# Altium schematic symbol library MySchlib.SchLib: 71 symbols
Pins are listed as number, name and electrical type; pins without a type are passive.

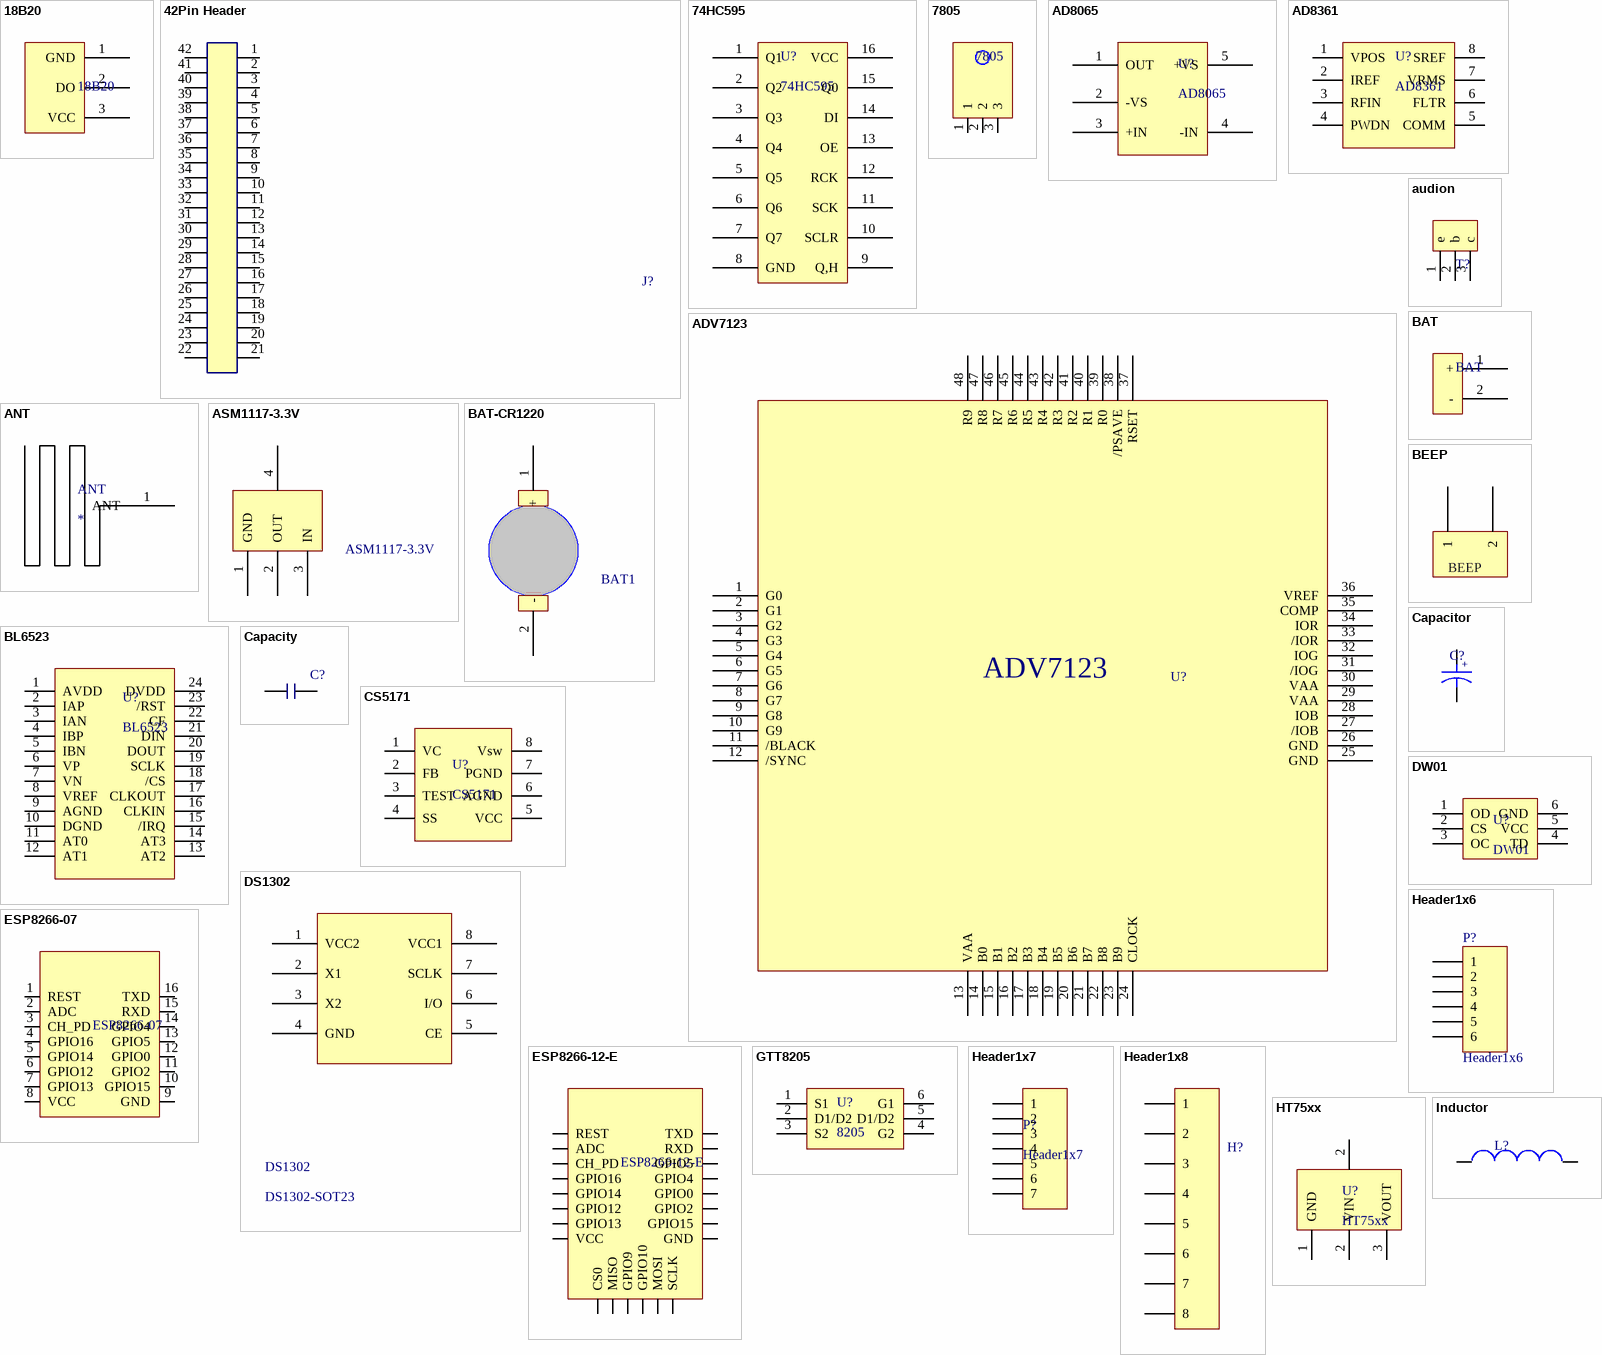
[diagram p0: symbols 18B20 to Inductor]

## 18B20
designator 18B20  (value not drawn)
footprint 18B20
pins: 1 GND, 2 DO, 3 VCC

## 42Pin Header
designator J?  (value not drawn)
footprint Test contact
pins: 1, 2, 3, 4, 5, 6, 7, 8, 9, 10, 11, 12, 13, 14, 15, 16, 17, 18, 19, 20, 21, 22, 23, 24, 25, 26, 27, 28, 29, 30, 31, 32, 33, 34, 35, 36, 37, 38, 39, 40, 41, 42

## 74HC595
designator U?
footprint SOP16
pins: 1 Q1, 2 Q2, 3 Q3, 4 Q4, 5 Q5, 6 Q6, 7 Q7, 8 GND, 9 Q,H, 10 SCLR, 11 SCK, 12 RCK, 13 OE, 14 DI, 15 Q0, 16 VCC

## 7805
designator 7805  (value not drawn)
footprint 7805
pins: 1, 2, 3

## AD8065
designator U?
footprint SOT25-5
pins: 1 OUT, 2 -VS, 3 +IN, 4 -IN, 5 +VS

## AD8361
designator U?
footprint TSOP65P490X110-8N (TSOP, 8-Leads, Body 3.0x3.0mm (max), Pitch 0.65mm, IPC Medium Density)
pins: 1 VPOS, 2 IREF, 3 RFIN, 4 PWDN, 5 COMM, 6 FLTR, 7 VRMS, 8 SREF

## ADV7123
designator U?  (value not drawn)
footprint LQFP48
pins: 1 G0, 2 G1, 3 G2, 4 G3, 5 G4, 6 G5, 7 G6, 8 G7, 9 G8, 10 G9, 11 /BLACK, 12 /SYNC, 13 VAA, 14 B0, 15 B1, 16 B2, 17 B3, 18 B4, 19 B5, 20 B6, 21 B7, 22 B8, 23 B9, 24 CLOCK, 25 GND, 26 GND, 27 /IOB, 28 IOB, 29 VAA, 30 VAA, 31 /IOG, 32 IOG, 33 /IOR, 34 IOR, 35 COMP, 36 VREF, 37 RSET, 38 /PSAVE, 39 R0, 40 R1, 41 R2, 42 R3, 43 R4, 44 R5, 45 R6, 46 R7, 47 R8, 48 R9

## ANT
designator ANT
footprint ANT
pins: 1 ANT

## ASM1117-3.3V
designator ASM1117-3.3V  (value not drawn)
footprint ASM1117
footprint SOT223
pins: 1 GND, 2 OUT, 3 IN, 4

## audion
designator T?, comment 8550  (value not drawn)
footprint Audion
pins: 1 e, 2 b, 3 c

## BAT
designator BAT  (value not drawn)
footprint BAT-IN
pins: 1 +, 2 -

## BAT-CR1220
designator BAT1  (value not drawn)
footprint BAT-CR1220
pins: 1 +, 2 -

## BEEP
designator BEEP  (value not drawn)
footprint BEEP
pins: 1, 2

## BL6523
designator U?
电量计量芯片
footprint SSOP-24_208mil
pins: 1 AVDD, 2 IAP, 3 IAN, 4 IBP, 5 IBN, 6 VP, 7 VN, 8 VREF, 9 AGND, 10 DGND, 11 AT0, 12 AT1, 13 AT2, 14 AT3, 15 /IRQ, 16 CLKIN, 17 CLKOUT, 18 /CS, 19 SCLK, 20 DOUT, 21 DIN, 22 CF, 23 /RST, 24 DVDD

## Capacitor
designator C?  (value not drawn)
footprint 100UF
pins: 1, 2
text: +

## Capacity
designator C?  (value not drawn)
footprint 0402
pins: 1, 2

## CS5171
designator U?
footprint SOIC-8
pins: 1 VC, 2 FB, 3 TEST, 4 SS, 5 VCC, 6 AGND, 7 PGND, 8 Vsw

## DS1302
designator DS1302, comment DS1302-SOT23
footprint SOIC-8M
pins: 1 VCC2, 2 X1, 3 X2, 4 GND, 5 CE, 6 I/O, 7 SCLK, 8 VCC1

## DW01
designator U?
锂电池保护芯片
footprint SOT23-5
pins: 1 OD, 2 CS, 3 OC, 4 TD, 5 VCC, 6 GND

## ESP8266-07
designator ESP8266-07  (value not drawn)
footprint ESP8266-07 (WiFi module)
pins: 1 REST, 2 ADC, 3 CH_PD, 4 GPIO16, 5 GPIO14, 6 GPIO12, 7 GPIO13, 8 VCC, 9 GND, 10 GPIO15, 11 GPIO2, 12 GPIO0, 13 GPIO5, 14 GPIO4, 15 RXD, 16 TXD

## ESP8266-12-E
designator ESP8266-12-E  (value not drawn)
footprint ESP8266-12-E (WiFi module)
pins: 1 REST, 2 ADC, 3 CH_PD, 4 GPIO16, 5 GPIO14, 6 GPIO12, 7 GPIO13, 8 VCC, 9 CS0, 10 MISO, 11 GPIO9, 12 GPIO10, 13 MOSI, 14 SCLK, 15 GND, 16 GPIO15, 17 GPIO2, 18 GPIO0, 19 GPIO4, 20 GPIO5, 21 RXD, 22 TXD

## GTT8205
designator U?, comment 8205
8205双N沟导MOS管,20V/6A
footprint SOT23-5
pins: 1 S1, 2 D1/D2, 3 S2, 4 G2, 5 D1/D2, 6 G1

## Header1x6
designator P?
Header, 6-Pin; LatestRevisionDate: 17-Jul-2002; LatestRevisionNote: Re-released for DXP Platform.; Publisher: Altium Limited
footprint HDR1X6 (Connector; Header; 6 Position)
signal-integrity model Connector
pins: 1, 2, 3, 4, 5, 6

## Header1x7
designator P?
footprint Header1x7
pins: 1, 2, 3, 4, 5, 6, 7

## Header1x8
designator H?  (value not drawn)
footprint Header1x8
pins: 1, 2, 3, 4, 5, 6, 7, 8

## HT75xx
designator U?
footprint SOT-89
pins: 1 GND, 2 VIN, 2 VIN, 3 VOUT

## Inductor
designator L?  (value not drawn)
pins: 1, 2

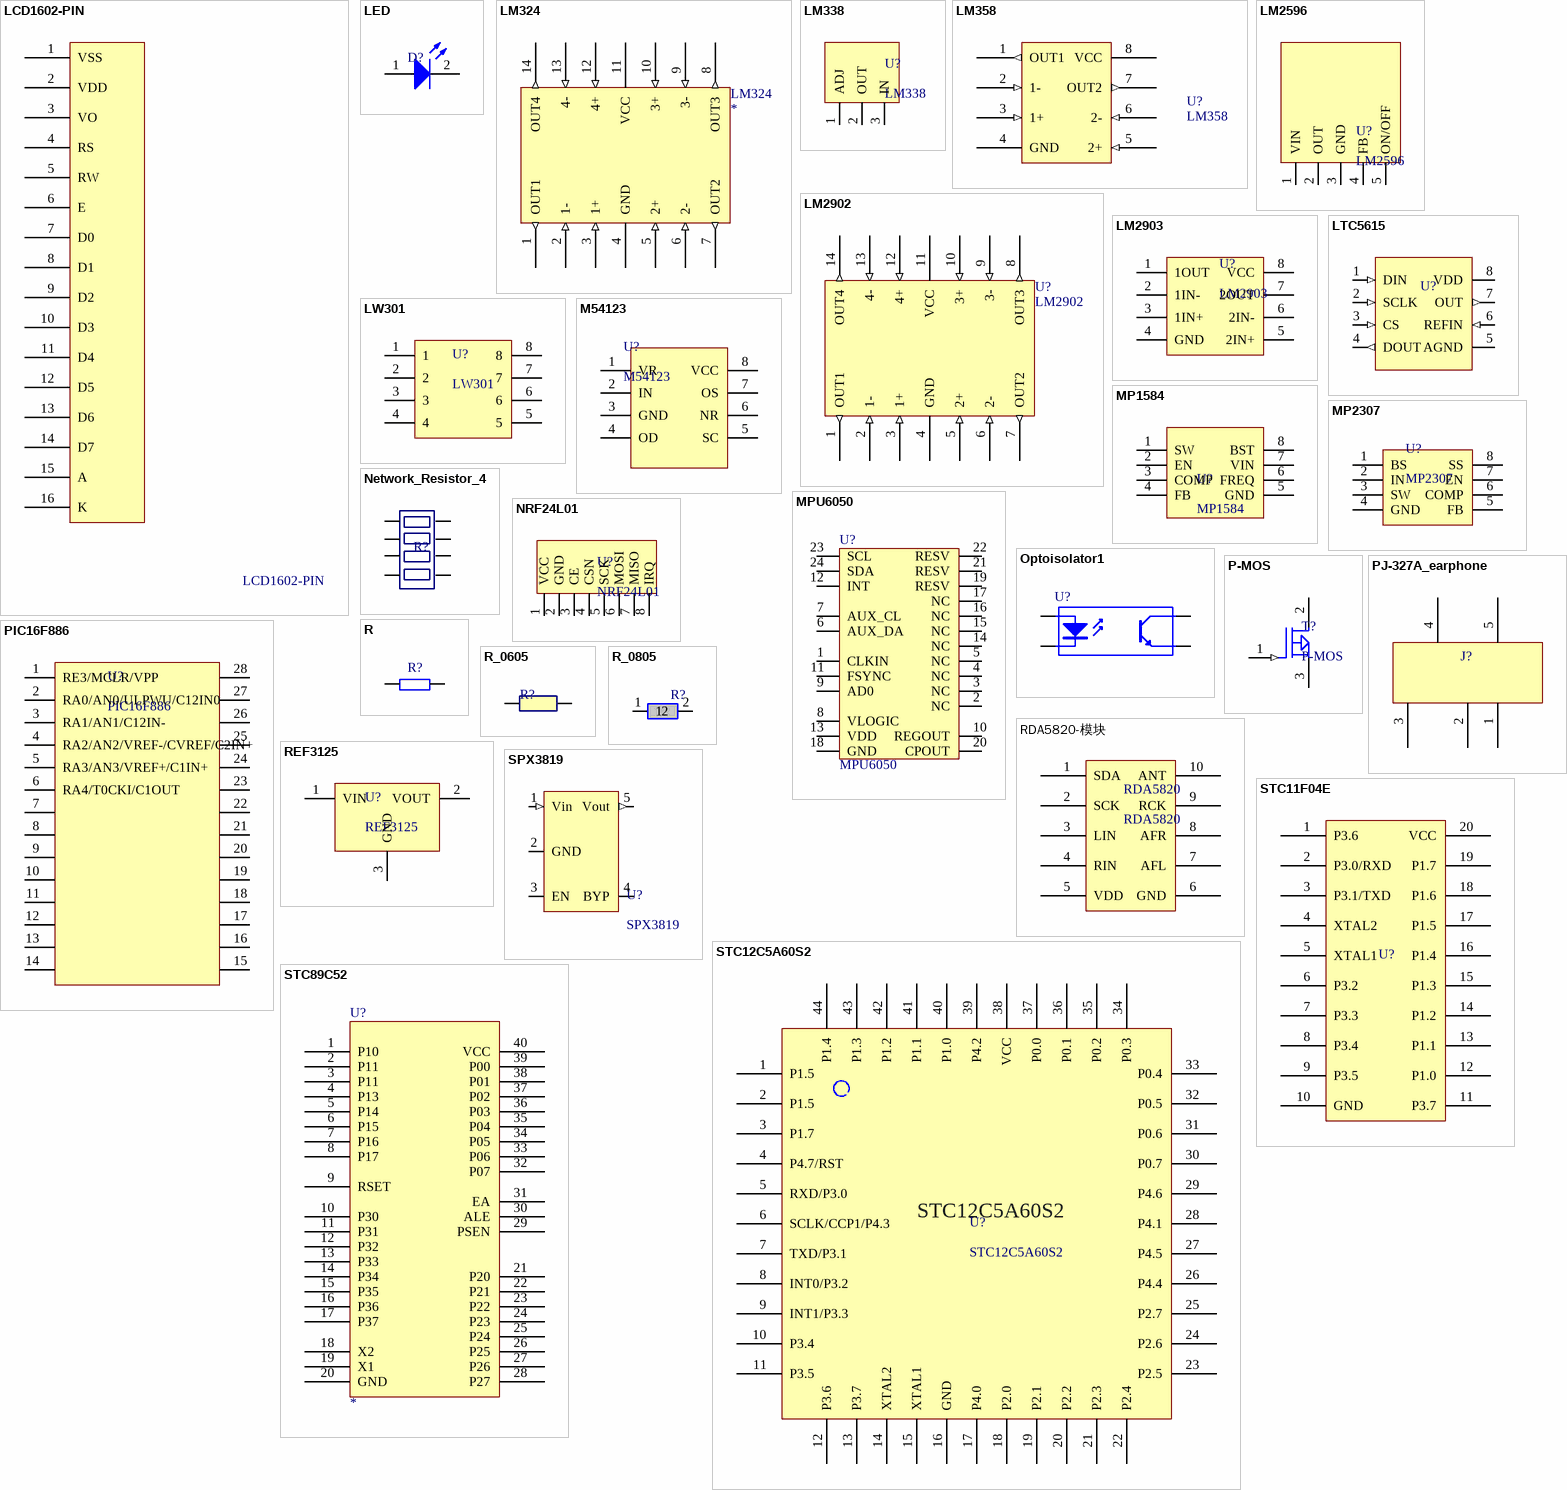
[diagram p1: symbols LCD1602-PIN to STC89C52]

## LCD1602-PIN
designator LCD1602-PIN  (value not drawn)
footprint LCD1602-PIN
pins: 1 VSS, 2 VDD, 3 VO, 4 RS, 5 RW, 6 E, 7 D0, 8 D1, 9 D2, 10 D3, 11 D4, 12 D5, 13 D6, 14 D7, 15 A, 16 K

## LED
designator D?  (value not drawn)
footprint 6-0805 (Chip Resistor; Body 2.0 x 1.3 mm (LxW typ))
pins: 1, 2

## LM324
designator LM324
pins: 1 OUT1 (out), 2 1- (in), 3 1+ (in), 4 GND (power), 5 2+ (in), 6 2- (in), 7 OUT2 (out), 8 OUT3 (out), 9 3- (in), 10 3+ (in), 11 VCC (power), 12 4+ (in), 13 4- (in), 14 OUT4 (out)

## LM338
designator U?
footprint TO-220 - duplicate1
pins: 1 ADJ, 2 OUT, 3 IN

## LM358
designator U?
footprint DIP08
pins: 1 OUT1 (out), 2 1- (in), 3 1+ (in), 4 GND (power), 5 2+ (in), 6 2- (in), 7 OUT2 (out), 8 VCC (power)

## LM2596
designator U?
footprint TO-263 - duplicate
pins: 1 VIN, 2 OUT, 3 GND, 4 FB, 5 ON/OFF

## LM2902
designator U?
运算放大器
pins: 1 OUT1 (out), 2 1- (in), 3 1+ (in), 4 GND (power), 5 2+ (in), 6 2- (in), 7 OUT2 (out), 8 OUT3 (out), 9 3- (in), 10 3+ (in), 11 VCC (power), 12 4+ (in), 13 4- (in), 14 OUT4 (out)

## LM2903
designator U?
电压比较器
footprint SOIC-8_150mil
pins: 1 1OUT, 2 1IN-, 3 1IN+, 4 GND, 5 2IN+, 6 2IN-, 7 2OUT, 8 VCC

## LTC5615
designator U?  (value not drawn)
footprint DIP08
pins: 1 DIN (in), 2 SCLK (in), 3 CS (in), 4 DOUT (out), 5 AGND, 6 REFIN (in), 7 OUT (out), 8 VDD (power)

## LW301
designator U?
footprint SOP-8
pins: 1, 2, 3, 4, 5, 6, 7, 8

## M54123
designator U?
footprint SOP-8
pins: 1 VR, 2 IN, 3 GND, 4 OD, 5 SC, 6 NR, 7 OS, 8 VCC

## MP1584
designator U?
DC-DC芯片
footprint SOP-8_EP_150mil
pins: 1 SW, 2 EN, 3 COMP, 4 FB, 5 GND, 6 FREQ, 7 VIN, 8 BST

## MP2307
designator U?
DC-DC降压芯片
footprint SOIC-8_EP_150mil
pins: 1 BS, 2 IN, 3 SW, 4 GND, 5 FB, 6 COMP, 7 EN, 8 SS

## MPU6050
designator U?
9轴运动处理传感器
footprint QFN24 (QFN, 24-Leads, Body 4.0x4.0mm (max), Pitch 0.50mm, IPC Medium Density)
pins: 1 CLKIN, 2 NC, 3 NC, 4 NC, 5 NC, 6 AUX_DA, 7 AUX_CL, 8 VLOGIC, 9 AD0, 10 REGOUT, 11 FSYNC, 12 INT, 13 VDD, 14 NC, 15 NC, 16 NC, 17 NC, 18 GND, 19 RESV, 20 CPOUT, 21 RESV, 22 RESV, 23 SCL, 24 SDA

## Network_Resistor_4
designator R?  (value not drawn)
footprint RN-8P-0402
pins: 1, 2, 3, 4, 5, 6, 7, 8

## NRF24L01
designator U?
footprint miniNRF24L01
pins: 1 VCC, 2 GND, 3 CE, 4 CSN, 5 SCK, 6 MOSI, 7 MISO, 8 IRQ

## Optoisolator1
designator U?
4-Pin Phototransistor Optocoupler; Published: 24-Mar-1999; LatestRevisionDate: 04-Mar-2005; LatestRevisionNote: Sch pins 3 & 4 Swapped.; DatasheetDocument: Nov-2003; PackageReference: DIP-4; Publisher: Altium Limited
footprint DIP-4 (DIP; 4 Leads; Row Spacing 7.62 mm; Pitch 2.54 mm)
pins: 1 A "Anode", 2 K "Cathode", 3 E "Emitter", 4 C "Collector"

## P-MOS
designator T?
footprint TO-220 - duplicate1
pins: 1 G (in), 2 D (power), 3 S (power)

## PIC16F886
designator U?
单片机
footprint SSOP-28
footprint SSOP-28_208mil
pins: 1 RE3/MCLR/VPP, 2 RA0/AN0/ULPWU/C12IN0, 3 RA1/AN1/C12IN-, 4 RA2/AN2/VREF-/CVREF/C2IN+, 5 RA3/AN3/VREF+/C1IN+, 6 RA4/T0CKI/C1OUT, 7, 8, 9, 10, 11, 12, 13, 14, 15, 16, 17, 18, 19, 20, 21, 22, 23, 24, 25, 26, 27, 28

## PJ-327A_earphone
designator J?  (value not drawn)
footprint PJ-327A耳机插座
footprint PJ-327A耳机插座
pins: 1, 2, 3, 4, 5

## R
designator R?  (value not drawn)
footprint R
pins: 1, 2

## R_0605
designator R?  (value not drawn)
footprint 0603P
pins: 1, 2

## R_0805
designator R?, comment R  (value not drawn)
footprint 6-0805 (Chip Resistor; Body 2.0 x 1.3 mm (LxW typ))
pins: 1, 2

## RDA5820-模块
designator RDA5820, comment RDA5820
footprint RDA5820模块
pins: 1 SDA, 2 SCK, 3 LIN, 4 RIN, 5 VDD, 6 GND, 7 AFL, 8 AFR, 9 RCK, 10 ANT

## REF3125
designator U?
电压基准芯片
footprint SOT-23(SOT-23-3)
pins: 1 VIN, 2 VOUT, 3 GND

## SPX3819
designator U?
footprint SOT25-5
pins: 1 Vin (in), 2 GND, 3 EN, 4 BYP, 5 Vout (out)

## STC11F04E
designator U?  (value not drawn)
footprint SOP20
pins: 1 P3.6, 2 P3.0/RXD, 3 P3.1/TXD, 4 XTAL2, 5 XTAL1, 6 P3.2, 7 P3.3, 8 P3.4, 9 P3.5, 10 GND, 11 P3.7, 12 P1.0, 13 P1.1, 14 P1.2, 15 P1.3, 16 P1.4, 17 P1.5, 18 P1.6, 19 P1.7, 20 VCC

## STC12C5A60S2
designator U?
footprint LQFP-44
pins: 1 P1.5, 2 P1.5, 3 P1.7, 4 P4.7/RST, 5 RXD/P3.0, 6 SCLK/CCP1/P4.3, 7 TXD/P3.1, 8 INT0/P3.2, 9 INT1/P3.3, 10 P3.4, 11 P3.5, 12 P3.6, 13 P3.7, 14 XTAL2, 15 XTAL1, 16 GND, 17 P4.0, 18 P2.0, 19 P2.1, 20 P2.2, 21 P2.3, 22 P2.4, 23 P2.5, 24 P2.6, 25 P2.7, 26 P4.4, 27 P4.5, 28 P4.1, 29 P4.6, 30 P0.7, 31 P0.6, 32 P0.5, 33 P0.4, 34 P0.3, 35 P0.2, 36 P0.1, 37 P0.0, 38 VCC, 39 P4.2, 40 P1.0, 41 P1.1, 42 P1.2, 43 P1.3, 44 P1.4

## STC89C52
designator U?
footprint DIP-40
pins: 1 P10, 2 P11, 3 P11, 4 P13, 5 P14, 6 P15, 7 P16, 8 P17, 9 RSET, 10 P30, 11 P31, 12 P32, 13 P33, 14 P34, 15 P35, 16 P36, 17 P37, 18 X2, 19 X1, 20 GND, 21 P20, 22 P21, 23 P22, 24 P23, 25 P24, 26 P25, 27 P26, 28 P27, 29 PSEN, 30 ALE, 31 EA, 32 P07, 33 P06, 34 P05, 35 P04, 36 P03, 37 P02, 38 P01, 39 P00, 40 VCC

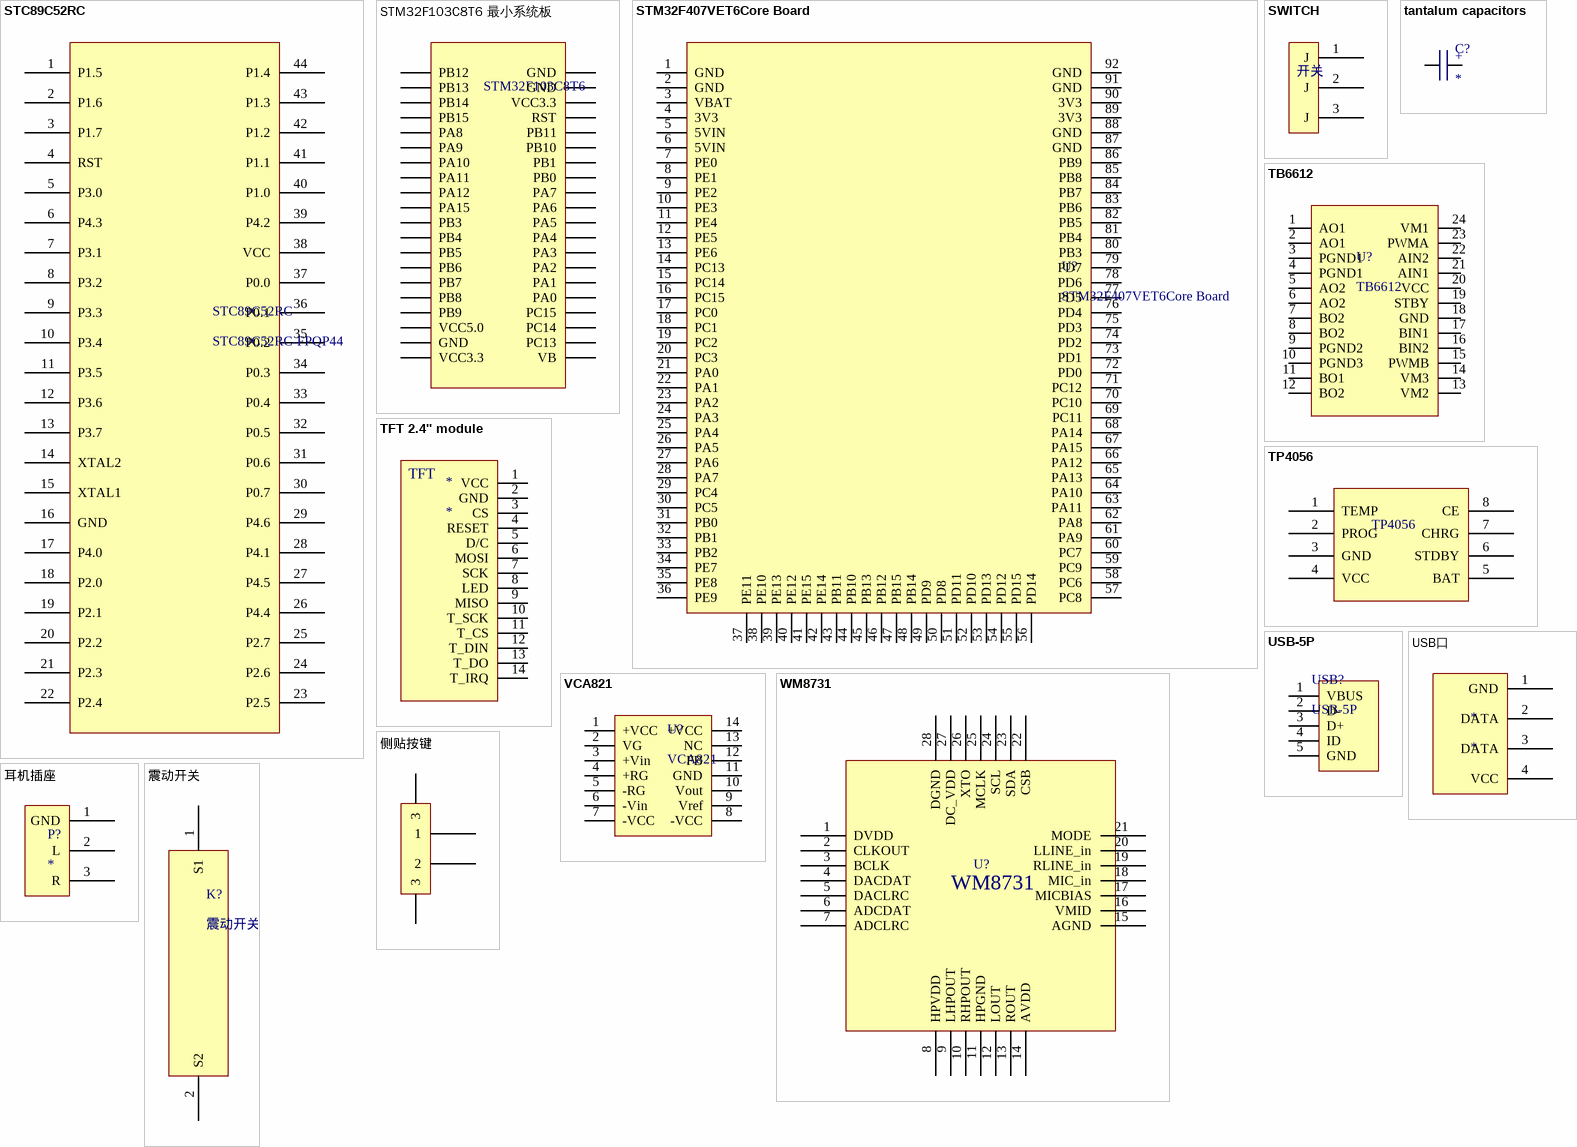
[diagram p2: symbols STC89C52RC to 震动开关]

## STC89C52RC
designator STC89C52RC, comment STC89C52RC-FPQP44
footprint LQFP-44
pins: 1 P1.5, 2 P1.6, 3 P1.7, 4 RST, 5 P3.0, 6 P4.3, 7 P3.1, 8 P3.2, 9 P3.3, 10 P3.4, 11 P3.5, 12 P3.6, 13 P3.7, 14 XTAL2, 15 XTAL1, 16 GND, 17 P4.0, 18 P2.0, 19 P2.1, 20 P2.2, 21 P2.3, 22 P2.4, 23 P2.5, 24 P2.6, 25 P2.7, 26 P4.4, 27 P4.5, 28 P4.1, 29 P4.6, 30 P0.7, 31 P0.6, 32 P0.5, 33 P0.4, 34 P0.3, 35 P0.2, 36 P0.1, 37 P0.0, 38 VCC, 39 P4.2, 40 P1.0, 41 P1.1, 42 P1.2, 43 P1.3, 44 P1.4

## STM32F103C8T6 最小系统板
designator STM32F103C8T6  (value not drawn)
footprint DIP-40
pins: 1 PB12, 2 PB13, 3 PB14, 4 PB15, 5 PA8, 6 PA9, 7 PA10, 8 PA11, 9 PA12, 10 PA15, 11 PB3, 12 PB4, 13 PB5, 14 PB6, 15 PB7, 16 PB8, 17 PB9, 18 VCC5.0, 19 GND, 20 VCC3.3, 21 VB, 22 PC13, 23 PC14, 24 PC15, 25 PA0, 26 PA1, 27 PA2, 28 PA3, 29 PA4, 30 PA5, 31 PA6, 32 PA7, 33 PB0, 34 PB1, 35 PB10, 36 PB11, 37 RST, 38 VCC3.3, 39 GND, 40 GND

## STM32F407VET6Core Board
designator U?
最小系统板
footprint STM32F407 coreboard
pins: 1 GND, 2 GND, 3 VBAT, 4 3V3, 5 5VIN, 6 5VIN, 7 PE0, 8 PE1, 9 PE2, 10 PE3, 11 PE4, 12 PE5, 13 PE6, 14 PC13, 15 PC14, 16 PC15, 17 PC0, 18 PC1, 19 PC2, 20 PC3, 21 PA0, 22 PA1, 23 PA2, 24 PA3, 25 PA4, 26 PA5, 27 PA6, 28 PA7, 29 PC4, 30 PC5, 31 PB0, 32 PB1, 33 PB2, 34 PE7, 35 PE8, 36 PE9, 37 PE11, 38 PE10, 39 PE13, 40 PE12, 41 PE15, 42 PE14, 43 PB11, 44 PB10, 45 PB13, 46 PB12, 47 PB15, 48 PB14, 49 PD9, 50 PD8, 51 PD11, 52 PD10, 53 PD13, 54 PD12, 55 PD15, 56 PD14, 57 PC8, 58 PC6, 59 PC9, 60 PC7, 61 PA9, 62 PA8, 63 PA11, 64 PA10, 65 PA13, 66 PA12, 67 PA15, 68 PA14, 69 PC11, 70 PC10, 71 PC12, 72 PD0, 73 PD1, 74 PD2, 75 PD3, 76 PD4, 77 PD5, 78 PD6, 79 PD7, 80 PB3, 81 PB4, 82 PB5, 83 PB6, 84 PB7, 85 PB8, 86 PB9, 87 GND, 88 GND, 89 3V3, 90 3V3, 91 GND, 92 GND

## SWITCH
designator 开关  (value not drawn)
footprint SWITCH
pins: 1 J, 2 J, 3 J

## tantalum capacitors
designator C?
footprint tantalum capacitors
pins: 1, 2
3 alternate drawings of the same symbol
text: +

## TB6612
designator U?
footprint SSOP-24
pins: 1 AO1, 2 AO1, 3 PGND1, 4 PGND1, 5 AO2, 6 AO2, 7 BO2, 8 BO2, 9 PGND2, 10 PGND3, 11 BO1, 12 BO2, 13 VM2, 14 VM3, 15 PWMB, 16 BIN2, 17 BIN1, 18 GND, 19 STBY, 20 VCC, 21 AIN1, 22 AIN2, 23 PWMA, 24 VM1

## TFT 2.4'' module
designator *
footprint TFT 2.4'' module (带触摸液晶模块)
pins: 1 VCC, 2 GND, 3 CS, 4 RESET, 5 D/C, 6 MOSI, 7 SCK, 8 LED, 9 MISO, 10 T_SCK, 11 T_CS, 12 T_DIN, 13 T_DO, 14 T_IRQ
text: TFT

## TP4056
designator TP4056, comment TP4056-SOT8  (value not drawn)
footprint SOIC-8M
pins: 1 TEMP, 2 PROG, 3 GND, 4 VCC, 5 BAT, 6 STDBY, 7 CHRG, 8 CE

## USB-5P
designator USB?
微型USB母座; 版权归属: 源创客; BOM名称: 微型USB母座; 学习资源: www.ooocke.com
footprint USB-MICRO_B (micro型USB ，5.7*7.8*2.5mm)
pins: 1 VBUS, 2 D-, 3 D+, 4 ID, 5 GND

## USB口
designator *
footprint mini-USB
pins: 1 GND, 2 DATA, 3 DATA, 4 VCC

## VCA821
designator U?
footprint SOP-14
pins: 1 +VCC, 2 VG, 3 +Vin, 4 +RG, 5 -RG, 6 -Vin, 7 -VCC, 8 -VCC, 9 Vref, 10 Vout, 11 GND, 12 FB, 13 NC, 14 +VCC

## WM8731
designator U?  (value not drawn)
footprint SSOP28
pins: 1 DVDD, 2 CLKOUT, 3 BCLK, 4 DACDAT, 5 DACLRC, 6 ADCDAT, 7 ADCLRC, 8 HPVDD, 9 LHPOUT, 10 RHPOUT, 11 HPGND, 12 LOUT, 13 ROUT, 14 AVDD, 15 AGND, 16 VMID, 17 MICBIAS, 18 MIC_in, 19 RLINE_in, 20 LLINE_in, 21 MODE, 22 CSB, 23 SDA, 24 SCL, 25 MCLK, 26 XTO, 27 DC_VDD, 28 DGND

## 侧贴按键
designator 侧贴按键  (value not drawn)
footprint 侧贴按键
pins: 1, 2, 3, 3

## 耳机插座
designator P?
footprint 耳机插座
pins: 1 GND, 2 L, 3 R

## 震动开关
designator K?
footprint 震动开关
pins: 1 S1, 2 S2